# Altium footprint library IND-4747.PcbLib: 1 footprints
Each footprint in its own frame and in the unit in brackets; x right, y up, seen from the top. Pads: shape width x height; smd on the part's side, far side on the other; paste and mask are expansions set on the pad; w line width, h text height; cw(c..) or ccw(c..) is an arc to the next point about the centre after c.
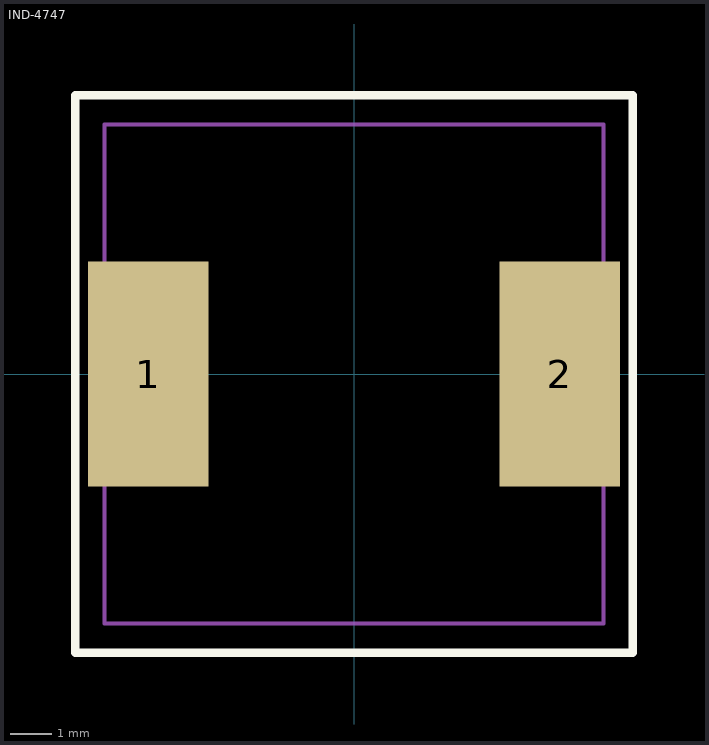
[diagram p0: the footprint, top view; thin cyan lines are the x and y axes]

## IND-4747 [mm]
height 0.55
pads (2):
  rect 2.9x5.4 smd: 1(-4.95,0) 2(4.95,0)
Top Overlay:
  lines w0.2: -6.7,-6.7 6.7,-6.7 6.7,6.7 -6.7,6.7 -6.7,-6.7
Top Assembly:
  lines w0.1: -6,-6 -6,6 6,6 6,-6 -6,-6
  text "'.Designator'" at -0.975,-0.35 h0.7
3D body "coil.stp": height 6, standoff 0, extent -6,-6 6,6